# Altium footprint library CONN_PLx.PcbLib: 58 footprints (part 1 of 4)
Each footprint in its own frame and in the unit in brackets; x right, y up, seen from the top. Pads: shape width x height; smd on the part's side, far side on the other; paste and mask are expansions set on the pad; w line width, h text height; cw(c..) or ccw(c..) is an arc to the next point about the centre after c.
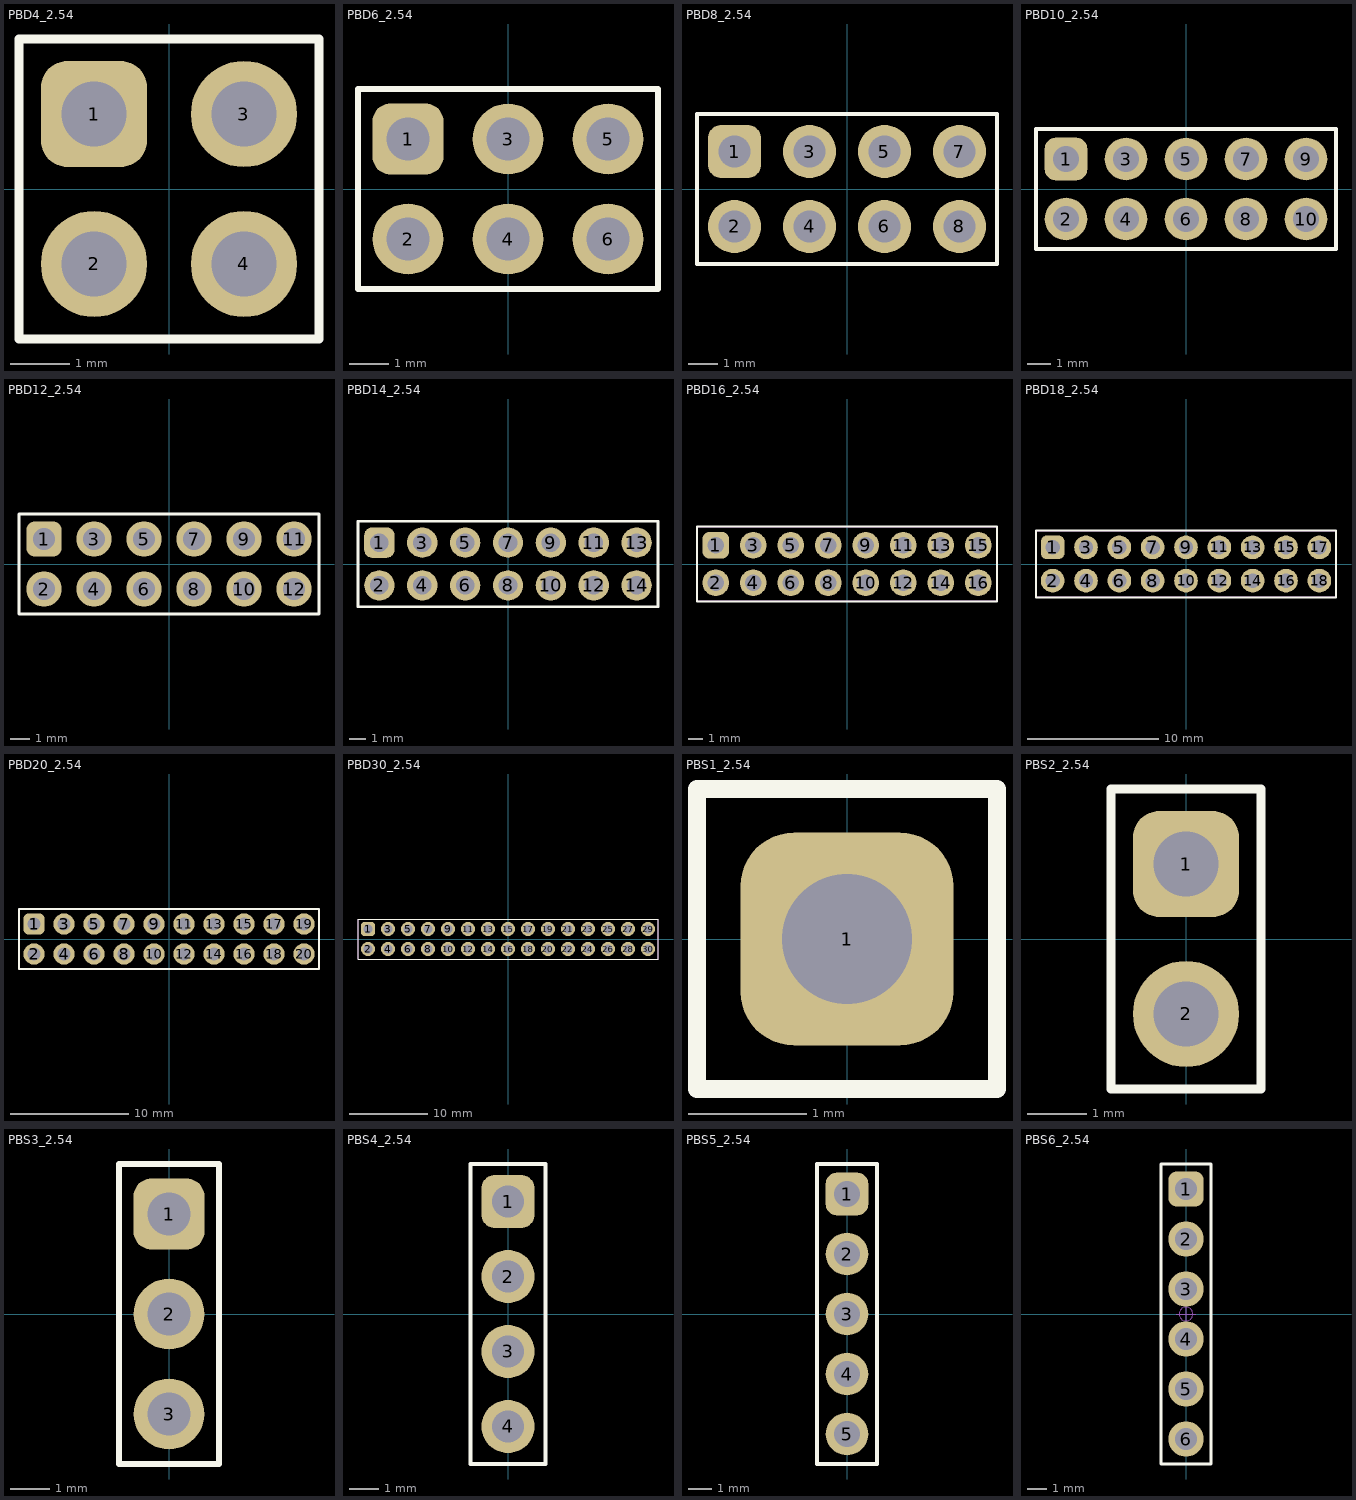
[diagram p0: the footprints below, top view; thin cyan lines are the x and y axes]

## PBD4_2.54 [mm]
pads (4):
  rrect50% 1.8x1.8 hole 1.1: 1(-1.27,1.27)
  round 1.8 hole 1.1: 2(-1.27,-1.27) 3(1.27,1.27) 4(1.27,-1.27)
Top Overlay:
  lines w0.15: -2.54,-2.54 2.54,-2.54 2.54,2.54 -2.54,2.54 -2.54,-2.54
Mechanical 14:
  lines w0.1: -2.54,-2.54 2.54,-2.54 2.54,2.54 -2.54,2.54 -2.54,-2.54
  text ".Designator" at -1.246,-0.324 h0.7
3D body "PBS-02.step": height 8.4, standoff -3.2, extent -0.02,-2.52 2.52,2.56
3D body "PBS-02.step": height 8.4, standoff -3.2, extent -2.52,-2.52 0.02,2.56

## PBD6_2.54 [mm]
pads (6):
  rrect50% 1.8x1.8 hole 1.1: 1(-2.54,1.27)
  round 1.8 hole 1.1: 2(-2.54,-1.27) 3(0,1.27) 4(0,-1.27) 5(2.54,1.27) 6(2.54,-1.27)
Top Overlay:
  lines w0.15: -3.81,-2.54 -3.81,2.54 3.81,2.54 3.81,-2.54 -3.81,-2.54
Mechanical 14:
  lines w0.1: -3.81,-2.54 3.81,-2.54 3.81,2.54 -3.81,2.54 -3.81,-2.54
  text ".Designator" at -2.646,-0.224 h0.7
3D body "PBS-03.step": height 8.4, standoff -3.2, extent -3.81,-2.54 3.81,0
3D body "PBS-03.step": height 8.4, standoff -3.2, extent -3.81,0 3.81,2.54

## PBD8_2.54 [mm]
pads (8):
  rrect50% 1.8x1.8 hole 1.1: 1(-3.81,1.27)
  round 1.8 hole 1.1: 2(-3.81,-1.27) 3(-1.27,1.27) 4(-1.27,-1.27) 5(1.27,1.27) 6(1.27,-1.27) 7(3.81,1.27) 8(3.81,-1.27)
Top Overlay:
  lines w0.15: -5.08,-2.54 5.08,-2.54 5.08,2.54 -5.08,2.54 -5.08,-2.54
Mechanical 14:
  lines w0.1: -5.08,-2.54 5.08,-2.54 5.08,2.54 -5.08,2.54 -5.08,-2.54
  text ".Designator" at -3.646,-0.224 h0.7
3D body "PBS-04.step": height 8.4, standoff -3.2, extent -5.08,0 5.08,2.54
3D body "PBS-04.step": height 8.4, standoff -3.2, extent -5.08,-2.54 5.08,0

## PBD10_2.54 [mm]
pads (10):
  rrect50% 1.8x1.8 hole 1.1: 1(-5.08,1.27)
  round 1.8 hole 1.1: 2(-5.08,-1.27) 3(-2.54,1.27) 4(-2.54,-1.27) 5(0,1.27) 6(0,-1.27) 7(2.54,1.27) 8(2.54,-1.27) 9(5.08,1.27) 10(5.08,-1.27)
Top Overlay:
  lines w0.15: -6.35,-2.54 -6.35,2.54 6.35,2.54 6.35,-2.54 -6.35,-2.54
Mechanical 14:
  lines w0.1: -6.35,-2.54 -6.35,2.54 6.35,2.54 6.35,-2.54 -6.35,-2.54
  text ".Designator" at -4.846,-0.224 h0.7
3D body "PBS-05.step": height 8.4, standoff -3.2, extent -6.35,-2.54 6.35,0
3D body "PBS-05.step": height 8.4, standoff -3.2, extent -6.35,0 6.35,2.54

## PBD12_2.54 [mm]
pads (12):
  rrect50% 1.8x1.8 hole 1.1: 1(-6.35,1.27)
  round 1.8 hole 1.1: 2(-6.35,-1.27) 3(-3.81,1.27) 4(-3.81,-1.27) 5(-1.27,1.27) 6(-1.27,-1.27) 7(1.27,1.27) 8(1.27,-1.27) 9(3.81,1.27) 10(3.81,-1.27) 11(6.35,1.27) 12(6.35,-1.27)
Top Overlay:
  lines w0.15: -7.62,-2.54 -7.62,2.54 7.62,2.54 7.62,-2.54 -7.62,-2.54
Mechanical 14:
  lines w0.1: -7.62,-2.54 -7.62,2.54 7.62,2.54 7.62,-2.54 -7.62,-2.54
  text ".Designator" at -6.146,-0.224 h0.7
3D body "PBS-06.step": height 8.4, standoff -3.2, extent -7.62,0 7.62,2.54
3D body "PBS-06.step": height 8.4, standoff -3.2, extent -7.62,-2.54 7.62,0

## PBD14_2.54 [mm]
pads (14):
  rrect50% 1.8x1.8 hole 1.1: 1(-7.62,1.27)
  round 1.8 hole 1.1: 2(-7.62,-1.27) 3(-5.08,1.27) 4(-5.08,-1.27) 5(-2.54,1.27) 6(-2.54,-1.27) 7(0,1.27) 8(0,-1.27) 9(2.54,1.27) 10(2.54,-1.27) 11(5.08,1.27) 12(5.08,-1.27) 13(7.62,1.27) 14(7.62,-1.27)
Top Overlay:
  lines w0.15: -8.89,-2.54 8.89,-2.54 8.89,2.54 -8.89,2.54 -8.89,-2.54
Mechanical 14:
  lines w0.1: -8.89,-2.54 8.89,-2.54 8.89,2.54 -8.89,2.54 -8.89,-2.54
  text ".Designator" at -7.346,-0.224 h0.7
3D body "PBS-07.step": height 8.4, standoff -3.2, extent -8.89,-2.54 8.89,0
3D body "PBS-07.step": height 8.4, standoff -3.2, extent -8.89,0 8.89,2.54

## PBD16_2.54 [mm]
pads (16):
  rrect50% 1.8x1.8 hole 1.1: 1(-8.89,1.27)
  round 1.8 hole 1.1: 2(-8.89,-1.27) 3(-6.35,1.27) 4(-6.35,-1.27) 5(-3.81,1.27) 6(-3.81,-1.27) 7(-1.27,1.27) 8(-1.27,-1.27) 9(1.27,1.27) 10(1.27,-1.27) 11(3.81,1.27) 12(3.81,-1.27) 13(6.35,1.27) 14(6.35,-1.27) 15(8.89,1.27) 16(8.89,-1.27)
Top Overlay:
  lines w0.15: -10.16,-2.54 10.16,-2.54 10.16,2.54 -10.16,2.54 -10.16,-2.54
Mechanical 14:
  lines w0.1: -10.16,-2.54 10.16,-2.54 10.16,2.54 -10.16,2.54 -10.16,-2.54
  text ".Designator" at -8.646,-0.224 h0.7
3D body "PBS-08.step": height 8.4, standoff -3.2, extent -10.16,-2.54 10.16,0
3D body "PBS-08.step": height 8.4, standoff -3.2, extent -10.16,0 10.16,2.54

## PBD18_2.54 [mm]
pads (18):
  rrect50% 1.8x1.8 hole 1.1: 1(-10.16,1.27)
  round 1.8 hole 1.1: 2(-10.16,-1.27) 3(-7.62,1.27) 4(-7.62,-1.27) 5(-5.08,1.27) 6(-5.08,-1.27) 7(-2.54,1.27) 8(-2.54,-1.27) 9(0,1.27) 10(0,-1.27) 11(2.54,1.27) 12(2.54,-1.27) 13(5.08,1.27) 14(5.08,-1.27) 15(7.62,1.27) 16(7.62,-1.27) 17(10.16,1.27) 18(10.16,-1.27)
Top Overlay:
  lines w0.15: -11.43,-2.54 11.43,-2.54 11.43,2.54 -11.43,2.54 -11.43,-2.54
Mechanical 14:
  lines w0.1: -11.43,-2.54 11.43,-2.54 11.43,2.54 -11.43,2.54 -11.43,-2.54
  text ".Designator" at -9.946,-0.224 h0.7
3D body "PBS-09.step": height 8.4, standoff -3.2, extent -11.43,-2.54 11.43,0
3D body "PBS-09.step": height 8.4, standoff -3.2, extent -11.43,0 11.43,2.54

## PBD20_2.54 [mm]
pads (20):
  rrect50% 1.8x1.8 hole 1.1: 1(-11.43,1.27)
  round 1.8 hole 1.1: 2(-11.43,-1.27) 3(-8.89,1.27) 4(-8.89,-1.27) 5(-6.35,1.27) 6(-6.35,-1.27) 7(-3.81,1.27) 8(-3.81,-1.27) 9(-1.27,1.27) 10(-1.27,-1.27) 11(1.27,1.27) 12(1.27,-1.27) 13(3.81,1.27) 14(3.81,-1.27) 15(6.35,1.27) 16(6.35,-1.27) 17(8.89,1.27) 18(8.89,-1.27) 19(11.43,1.27) 20(11.43,-1.27)
Top Overlay:
  lines w0.15: -12.7,-2.54 12.7,-2.54 12.7,2.54 -12.7,2.54 -12.7,-2.54
Mechanical 14:
  lines w0.1: -12.7,-2.54 12.7,-2.54 12.7,2.54 -12.7,2.54 -12.7,-2.54
  text ".Designator" at -11.146,-0.224 h0.7
3D body "PBS-10.step": height 8.4, standoff -3.2, extent -12.7,-2.54 12.7,0
3D body "PBS-10.step": height 8.4, standoff -3.2, extent -12.7,0 12.7,2.54

## PBD30_2.54 [mm]
pads (30):
  rrect50% 1.8x1.8 hole 1.1: 1(-17.78,1.27)
  round 1.8 hole 1.1: 2(-17.78,-1.27) 3(-15.24,1.27) 4(-15.24,-1.27) 5(-12.7,1.27) 6(-12.7,-1.27) 7(-10.16,1.27) 8(-10.16,-1.27) 9(-7.62,1.27) 10(-7.62,-1.27) 11(-5.08,1.27) 12(-5.08,-1.27) 13(-2.54,1.27) 14(-2.54,-1.27) 15(0,1.27) 16(0,-1.27) 17(2.54,1.27) 18(2.54,-1.27) 19(5.08,1.27) 20(5.08,-1.27) 21(7.62,1.27) 22(7.62,-1.27) 23(10.16,1.27) 24(10.16,-1.27) 25(12.7,1.27) 26(12.7,-1.27) 27(15.24,1.27) 28(15.24,-1.27) 29(17.78,1.27) 30(17.78,-1.27)
Top Overlay:
  lines w0.15: -19.05,-2.54 -19.05,2.54 19.05,2.54 19.05,-2.54 -19.05,-2.54
Mechanical 14:
  lines w0.1: -19.05,-2.54 19.05,-2.54 19.05,2.54 -19.05,2.54 -19.05,-2.54
  text ".Designator" at -17.546,-0.224 h0.7
3D body "PBS-05.step": height 8.4, standoff -3.2, extent 6.35,-2.54 19.05,0
3D body "PBS-05.step": height 8.4, standoff -3.2, extent -6.35,-2.54 6.35,0
3D body "PBS-05.step": height 8.4, standoff -3.2, extent -19.05,-2.54 -6.35,0
3D body "PBS-05.step": height 8.4, standoff -3.2, extent 6.35,0 19.05,2.54
3D body "PBS-05.step": height 8.4, standoff -3.2, extent -6.35,0 6.35,2.54
3D body "PBS-05.step": height 8.4, standoff -3.2, extent -19.05,0 -6.35,2.54

## PBS1_2.54 [mm]
pads (1):
  rrect50% 1.8x1.8 hole 1.1: 1(0,0)
Top Overlay:
  lines w0.15: -1.27,-1.27 1.27,-1.27 1.27,1.27 -1.27,1.27 -1.27,-1.27
Mechanical 14:
  lines w0.1: -1.27,-1.27 1.27,-1.27 1.27,1.27 -1.27,1.27 -1.27,-1.27
  text ".Designator" at -0.846,-0.424 h0.7
3D body "PBS-01.step": height 8.4, standoff -3.2, extent -1.27,-1.27 1.27,1.27

## PBS2_2.54 [mm]
pads (2):
  rrect50% 1.8x1.8 hole 1.1: 1(0,1.27)
  round 1.8 hole 1.1: 2(0,-1.27)
Top Overlay:
  lines w0.15: -1.27,-2.54 -1.27,2.54 1.27,2.54 1.27,-2.54 -1.27,-2.54
Mechanical 14:
  lines w0.1: -1.27,-2.54 -1.27,2.54 1.27,2.54 1.27,-2.54 -1.27,-2.54
  text ".Designator" at -0.762,-0.254 h0.7
3D body "PBS-02.step": height 8.4, standoff -3.2, extent -1.27,-2.52 1.27,2.56

## PBS3_2.54 [mm]
pads (3):
  rrect50% 1.8x1.8 hole 1.1: 1(0,2.54)
  round 1.8 hole 1.1: 2(0,0) 3(0,-2.54)
Top Overlay:
  lines w0.15: -1.27,-3.81 -1.27,3.81 1.27,3.81 1.27,-3.81 -1.27,-3.81
Mechanical 14:
  lines w0.1: -1.27,-3.81 1.27,-3.81 1.27,3.81 -1.27,3.81 -1.27,-3.81
  text ".Designator" at -0.546,-0.554 h0.7
3D body "PBS-03.step": height 8.4, standoff -3.2, extent -1.27,-3.77 1.27,3.85

## PBS4_2.54 [mm]
pads (4):
  rrect50% 1.8x1.8 hole 1.1: 1(0,3.81)
  round 1.8 hole 1.1: 2(0,1.27) 3(0,-1.27) 4(0,-3.81)
Top Overlay:
  lines w0.15: -1.27,-5.08 1.27,-5.08 1.27,5.08 -1.27,5.08 -1.27,-5.08
Mechanical 14:
  lines w0.1: -1.27,-5.08 -1.27,5.08 1.27,5.08 1.27,-5.08 -1.27,-5.08
  text ".Designator" at -0.508,-0.254 h0.7
3D body "PBS-04.step": height 8.4, standoff -3.2, extent -1.29,-5.08 1.25,5.08

## PBS5_2.54 [mm]
pads (5):
  rrect50% 1.8x1.8 hole 1.1: 1(0,5.08)
  round 1.8 hole 1.1: 2(0,2.54) 3(0,0) 4(0,-2.54) 5(0,-5.08)
Top Overlay:
  lines w0.15: -1.27,-6.35 1.27,-6.35 1.27,6.35 -1.27,6.35 -1.27,-6.35
Mechanical 14:
  lines w0.1: -1.27,-6.35 -1.27,6.35 1.27,6.35 1.27,-6.35 -1.27,-6.35
  text ".Designator" at -0.508,-0.762 h0.7
3D body "PBS-05.step": height 8.4, standoff -3.2, extent -1.29,-6.35 1.25,6.35

## PBS6_2.54 [mm]
pads (6):
  rrect50% 1.8x1.8 hole 1.1: 1(0,6.35)
  round 1.8 hole 1.1: 2(0,3.81) 3(0,1.27) 4(0,-1.27) 5(0,-3.81) 6(0,-6.35)
Top Overlay:
  lines w0.15: -1.27,-7.62 1.27,-7.62 1.27,7.62 -1.27,7.62 -1.27,-7.62
Mechanical 14:
  lines w0.1: -1.27,-7.62 -1.27,7.62 1.27,7.62 1.27,-7.62 -1.27,-7.62
  text ".Designator" at -0.508,-0.254 h0.7
Mechanical 15:
  circle w0.05: c0,0 r0.35
  lines w0.05: -0.5,0 0.5,0 ; 0,-0.46 0,0.46 ; -1.27,-7.62 -1.27,7.62 1.27,7.62 1.27,-7.62 -1.27,-7.62
3D body "PBS-06.step": height 8.4, standoff -3.2, extent -1.25,-7.62 1.29,7.62